# Altium schematic symbol library Z1SMA15 Z-Diode 15V.SchLib: 1 symbol
Pins are listed as number, name and electrical type; pins without a type are passive.

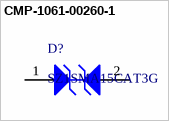
[diagram p0: symbol CMP-1061-00260-1]

## CMP-1061-00260-1
designator D?, comment SZ1SMA15CAT3G
400 W Peak Power Zener Transient Voltage Suppressor, 2-Pin SMA, Pb-Free, Tape and Reel; Manufacturer: On Semiconductor; V(BR) Typ (V): 17.58; PPK Max (W): 400; IR Max (uA): 2.5; Direction: Bidirectional; DatasheetVersion: Rev. 12; ComponentLink2URL: http://www.onsemi.com/pub_link/Collateral/1SMA10CAT3-D.PDF; Mounting Technology: Surface Mount; PackageVersion: Rev. F, 11/2008; ComponentLink2Description: Datasheet; ComponentLink1URL: http://www.onsemi.com/; RoHS: Pb-Free; Packing: Tape and Reel; ComponentLink3URL: http://www.onsemi.com/pub_link/Collateral/1SMA5913BT3-D.PDF; ComponentLink3Description: Package Specification; ComponentLink1Description: Manufacturer URL; PackageReference: SMA-2-403D-02_F; PackageDescription: 2-Pin Small Molded Package, J-Bend Lead, Body 2.605 x 4.315 mm; PartNumber: SZ1SMA15CAT3G
footprint ONSC-SMA-2-403D-02_F_V (Molded, 2-Leads, Body 4.32x2.6mm)
pins: 1 A1, 2 A2